# Altium footprint library HV9006_MEASUREBOARD.PCBLIB: 292 footprints (part 11 of 19)
Each footprint in its own frame and in the unit in brackets; x right, y up, seen from the top. Pads: shape width x height; smd on the part's side, far side on the other; paste and mask are expansions set on the pad; w line width, h text height; cw(c..) or ccw(c..) is an arc to the next point about the centre after c.
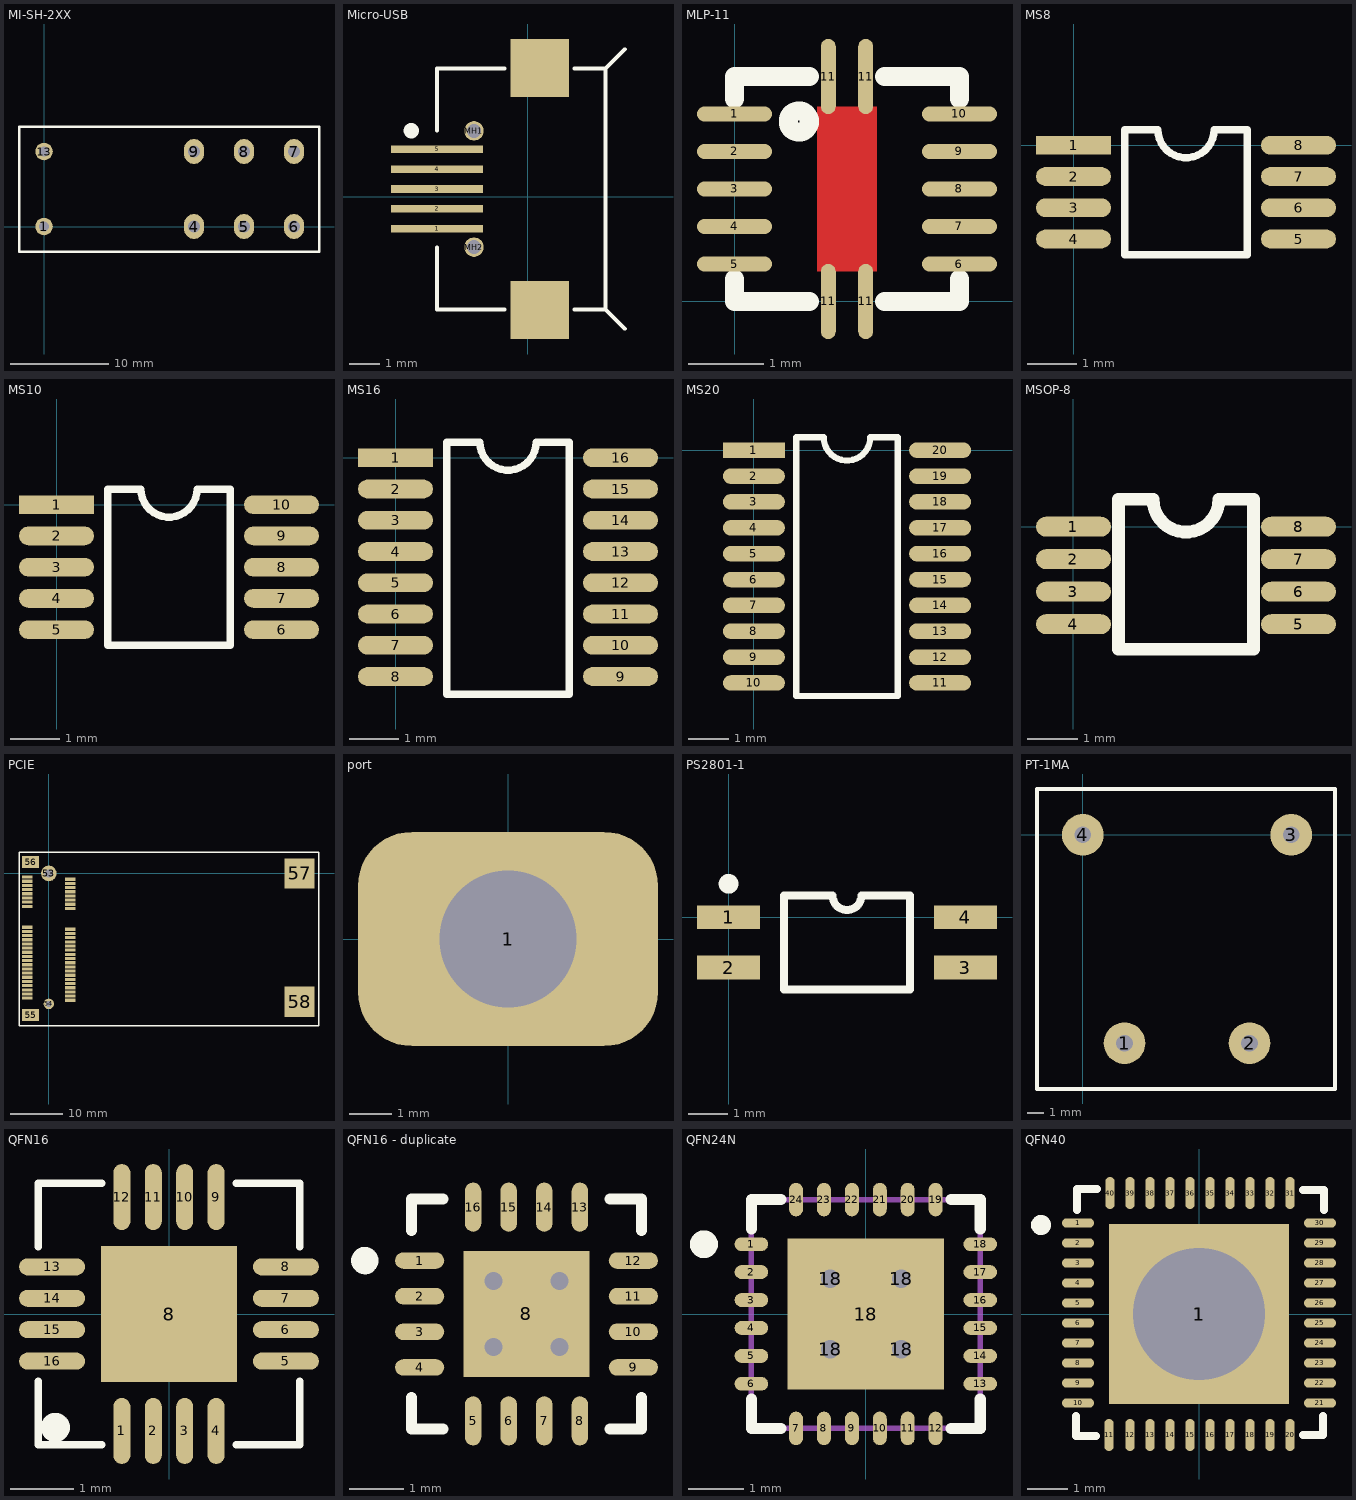
[diagram p10: the footprints below, top view; thin cyan lines are the x and y axes]

## MI-SH-2XX [mil]
pads (8):
  round 70 hole 39: 1(0,0) 13(0,300)
  oval 80x100 hole 47: 4(600,0) 5(800,0) 6(1000,0) 7(1000,300) 8(800,300) 9(600,300)
Top Overlay:
  lines w10: -100,-100 1100,-100 1100,400 -100,400 -100,-100

## Micro-USB [mm]
pads (9):
  rect 3x0.25 smd: 1(-2.968,-1.046) 2(-2.968,-0.396) 3(-2.968,0.254) 4(-2.968,0.904) 5(-2.968,1.554)
  round 0.635 hole 0.457 unplated: MH1(-1.76,2.154) MH2(-1.76,-1.646)
  rect 1.9x1.9 smd: ""(0.39,-3.696) ""(0.39,4.204)
Top Overlay:
  circle w0.25: c-3.808,2.159 r0.125
  lines w0.127: -2.968,-3.683 -0.762,-3.683 ; -2.968,-3.646 -2.968,-1.651 ; -2.968,2.159 -2.968,4.154 ; -2.968,4.191 -0.762,4.191 ; 1.524,-3.683 2.54,-3.683 3.17,-4.313 ; 1.524,4.191 2.54,4.191 3.17,4.821 ; 2.54,-3.646 2.54,4.154
3D body "micro USB.STEP": height 2.73, standoff -0.19, extent -2.826,-3.587 2.6,4.387

## MLP-11 [mm]
pads (14):
  oval 1x0.2 smd: 1(0,2.5) 2(0,2) 3(0,1.5) 4(0,1) 5(0,0.5) 6(3,0.5) 7(3,1) 8(3,1.5) 9(3,2) 10(3,2.5)
  oval 0.2x1 smd: 11(1.25,0) 11(1.25,3) 11(1.75,0) 11(1.75,3)
Top Layer:
  rectangle: 1.1,0.4 1.9,2.6
Top Overlay:
  circle w0.254: c0.859,2.4 r0.141
  lines w0.254: 0,0.3 0,0 1,0 ; 0,2.7 0,3 1,3 ; 2,0 3,0 3,0.3 ; 2,3 3,3 3,2.7

## MS8 [mil]
pads (8):
  rect 60x15 smd: 1(0,0)
  oval 60x15 smd: 2(0,-25) 3(0,-50) 4(0,-75) 5(180,-75) 6(180,-50) 7(180,-25) 8(180,0)
Top Overlay:
  lines w6: 67,12.5 41,12.5 41,-87.5 139,-87.5 139,12.5 113,12.5 ; 67.5,12.5 ccw(c90,12.5) 112.5,12.5

## MS10 [mil]
pads (10):
  rect 60x15 smd: 1(0,0)
  oval 60x15 smd: 2(0,-25) 3(0,-50) 4(0,-75) 5(0,-100) 6(180,-100) 7(180,-75) 8(180,-50) 9(180,-25) 10(180,0)
Top Overlay:
  lines w6: 67,12.5 41,12.5 41,-112.5 139,-112.5 139,12.5 113,12.5 ; 67.5,12.5 ccw(c90,12.5) 112.5,12.5

## MS16 [mil]
pads (16):
  rect 60x15 smd: 1(0,0)
  oval 60x15 smd: 2(0,-25) 3(0,-50) 4(0,-75) 5(0,-100) 6(0,-125) 7(0,-150) 8(0,-175) 9(180,-175) 10(180,-150) 11(180,-125) 12(180,-100) 13(180,-75) 14(180,-50) 15(180,-25) 16(180,0)
Top Overlay:
  lines w6: 67,12.5 41,12.5 41,-189 139,-189 139,12.5 113,12.5 ; 67.5,12.5 ccw(c90,12.5) 112.5,12.5

## MS20 [mil]
pads (20):
  rect 60x15 smd: 1(0,0)
  oval 60x15 smd: 2(0,-25) 3(0,-50) 4(0,-75) 5(0,-100) 6(0,-125) 7(0,-150) 8(0,-175) 9(0,-200) 10(0,-225) 11(180,-225) 12(180,-200) 13(180,-175) 14(180,-150) 15(180,-125) 16(180,-100) 17(180,-75) 18(180,-50) 19(180,-25) 20(180,0)
Top Overlay:
  lines w6: 67,12.5 41,12.5 41,-237.5 139,-237.5 139,12.5 113,12.5 ; 67.5,12.5 ccw(c90,12.5) 112.5,12.5

## MSOP-8 [mm]
pads (8):
  oval 1.5x0.4 smd: 1(0,0) 2(0,-0.65) 3(0,-1.3) 4(0,-1.95) 5(4.5,-1.95) 6(4.5,-1.3) 7(4.5,-0.65) 8(4.5,0)
Top Overlay:
  lines w0.254: 0.9,-2.45 3.6,-2.45 3.6,0.55 2.908,0.55 cw(c2.25,0.55) 1.592,0.55 0.9,0.55 0.9,-2.45

## PCIE [mm]
pads (58):
  rect 2x0.6 smd: 1(-4.1,-0.7) 2(4.1,-1.1) 3(-4.1,-1.5) 4(4.1,-1.9) 5(-4.1,-2.3) 6(4.1,-2.7) 7(-4.1,-3.1) 8(4.1,-3.5) 9(-4.1,-3.9) 10(4.1,-4.3) 11(-4.1,-4.7) 12(4.1,-5.1) 13(-4.1,-5.5) 14(4.1,-5.9) 15(-4.1,-6.3) 16(4.1,-6.7) 17(-4.1,-10.3) 18(4.1,-10.7) 19(-4.1,-11.1) 20(4.1,-11.5) 21(-4.1,-11.9) 22(4.1,-12.3) 23(-4.1,-12.7) 24(4.1,-13.1) 25(-4.1,-13.5) 26(4.1,-13.9) 27(-4.1,-14.3) 28(4.1,-14.7) 29(-4.1,-15.1) 30(4.1,-15.5) 31(-4.1,-15.9) 32(4.1,-16.3) 33(-4.1,-16.7) 34(4.1,-17.1) 35(-4.1,-17.5) 36(4.1,-17.9) 37(-4.1,-18.3) 38(4.1,-18.7) 39(-4.1,-19.1) 40(4.1,-19.5) 41(-4.1,-19.9) 42(4.1,-20.3) 43(-4.1,-20.7) 44(4.1,-21.1) 45(-4.1,-21.5) 46(4.1,-21.9) 47(-4.1,-22.3) 48(4.1,-22.7) 49(-4.1,-23.1) 50(4.1,-23.5) 51(-4.1,-23.9) 52(4.1,-24.3)
  round 3 hole 1.6: 53(0,0)
  round 2 hole 1.1: 54(0,-25)
  rect 3.2x2.3 smd: 55(-3.5,-27.15) 56(-3.5,2.15)
  rect 5.8x5.8 smd: 57(48.05,0) 58(48.05,-24.6)
Top Overlay:
  lines w0.254: -5.715,-29.21 -5.715,4.089 51.765,4.089 51.765,-29.21 -5.715,-29.21

## port [mm]
pads (1):
  rrect50% 7x5 hole 3.2: 1(0,0)

## PS2801-1 [mm]
pads (4):
  rect 1.6x0.6 smd: 1(0,0) 2(0,-1.27) 3(6,-1.27) 4(6,0)
Top Overlay:
  circle w0.25: c0,0.85 r0.125
  lines w0.2: 2.633,0.555 ccw(c3,0.555) 3.367,0.555 4.6,0.555 4.6,-1.825 1.4,-1.825 1.4,0.555 2.633,0.555

## PT-1MA [mil]
pads (4):
  round 100 hole 40: 1(100,-500) 2(400,-500) 3(500,0) 4(0,0)
Top Overlay:
  lines w10: -110,-610 605,-610 605,110 -110,110 -110,-610

## QFN16 [mm]
pads (17):
  oval 0.27x1.05 smd: 1(-0.75,-1.86) 2(-0.25,-1.86) 3(0.25,-1.86) 4(0.75,-1.86) 9(0.75,1.86) 10(0.25,1.86) 11(-0.25,1.86) 12(-0.75,1.86)
  oval 1.05x0.27 smd: 5(1.86,-0.75) 6(1.86,-0.25) 7(1.86,0.25) 8(1.86,0.75) 13(-1.86,0.75) 14(-1.86,0.25) 15(-1.86,-0.25) 16(-1.86,-0.75)
  rect 2.16x2.16 smd paste-2.16 mask+0: 8(0,0)
Top Overlay:
  circle w0.254: c-1.806,-1.803 r0.104
  lines w0.12: -2.08,-1.07 -2.08,-2.08 -1.07,-2.08 ; -2.08,1.07 -2.08,2.08 -1.07,2.08 ; 1.07,-2.08 2.08,-2.08 2.08,-1.07 ; 1.07,2.08 2.08,2.08 2.08,1.07
Top Paste:
  region: 0.865,-0.865 0.105,-0.865 0.105,-0.105 0.865,-0.105
  region: 0.865,0.105 0.105,0.105 0.105,0.865 0.865,0.865
  region: -0.105,-0.865 -0.865,-0.865 -0.865,-0.105 -0.105,-0.105
  region: -0.105,0.105 -0.865,0.105 -0.865,0.865 -0.105,0.865

## QFN16 - duplicate [mm]
pads (17):
  oval 0.9x0.3 smd: 1(-24.345,4.023) 2(-24.345,3.373) 3(-24.345,2.723) 4(-24.345,2.073) 9(-20.445,2.073) 10(-20.445,2.723) 11(-20.445,3.373) 12(-20.445,4.023)
  oval 0.3x0.9 smd: 5(-23.37,1.098) 6(-22.72,1.098) 7(-22.07,1.098) 8(-21.42,1.098) 13(-21.42,4.998) 14(-22.07,4.998) 15(-22.72,4.998) 16(-23.37,4.998)
  rect 2.3x2.3 smd: 8(-22.395,3.048)
via -21.795,2.448 diameter 0.66 hole 0.33
via -22.995,2.448 diameter 0.66 hole 0.33
via -21.795,3.648 diameter 0.66 hole 0.33
via -22.995,3.648 diameter 0.66 hole 0.33
Top Overlay:
  circle w0.25: c-25.345,4.023 r0.125
  lines w0.2: -24.495,1.523 -24.495,0.948 -23.92,0.948 ; -24.495,4.573 -24.495,5.148 -23.92,5.148 ; -20.87,0.948 -20.295,0.948 -20.295,1.523 ; -20.87,5.148 -20.295,5.148 -20.295,4.573

## QFN24N [mm] "QFN, 24-Leads, Body 4.1x4.1mm (max), Pitch 0.50mm, IPC Medium Density"
height 0.9
pads (29):
  oval 0.6x0.25 smd: 1(-2.05,1.25) 2(-2.05,0.75) 3(-2.05,0.25) 4(-2.05,-0.25) 5(-2.05,-0.75) 6(-2.05,-1.25) 13(2.05,-1.25) 14(2.05,-0.75) 15(2.05,-0.25) 16(2.05,0.25) 17(2.05,0.75) 18(2.05,1.25)
  oval 0.25x0.6 smd: 7(-1.25,-2.05) 8(-0.75,-2.05) 9(-0.25,-2.05) 10(0.25,-2.05) 11(0.75,-2.05) 12(1.25,-2.05) 19(1.25,2.05) 20(0.75,2.05) 21(0.25,2.05) 22(-0.25,2.05) 23(-0.75,2.05) 24(-1.25,2.05)
  round 0.66 hole 0.33: 18(-0.635,-0.635) 18(-0.635,0.635) 18(0.635,-0.635) 18(0.635,0.635)
  rect 2.8x2.7 smd: 18(0,0)
Top Overlay:
  circle w0.25: c-2.9,1.25 r0.125
  lines w0.2: -2.05,-1.525 -2.05,-2.05 -1.525,-2.05 ; -2.05,1.525 -2.05,2.05 -1.525,2.05 ; 1.525,-2.05 2.05,-2.05 2.05,-1.525 ; 1.525,2.05 2.05,2.05 2.05,1.525
Mechanical 13:
  lines w0.1: -2.05,-2.05 2.05,-2.05 2.05,2.05 -2.05,2.05 -2.05,-2.05
Mechanical 15:
  lines w0.1: -0.5,0 0.5,0 ; 0,-0.5 0,0.5
3D body: height 0.9, standoff 0.02, extent -2.05,-2.05 2.05,2.05

## QFN40 [mm]
pads (42):
  oval 0.8x0.23 smd: 1(-3.025,2.275) 2(-3.025,1.775) 3(-3.025,1.275) 4(-3.025,0.775) 5(-3.025,0.275) 6(-3.025,-0.225) 7(-3.025,-0.725) 8(-3.025,-1.225) 9(-3.025,-1.725) 10(-3.025,-2.225) 21(3.025,-2.225) 22(3.025,-1.725) 23(3.025,-1.225) 24(3.025,-0.725) 25(3.025,-0.225) 26(3.025,0.275) 27(3.025,0.775) 28(3.025,1.275) 29(3.025,1.775) 30(3.025,2.275)
  rect 4.5x4.5 smd: 1(0,0)
  round 3.5 hole 3.3: 1(0,0)
  oval 0.23x0.8 smd: 11(-2.25,-3.025) 12(-1.725,-3.025) 13(-1.225,-3.025) 14(-0.725,-3.025) 15(-0.225,-3.025) 16(0.275,-3.025) 17(0.775,-3.025) 18(1.275,-3.025) 19(1.775,-3.025) 20(2.275,-3.025) 31(2.275,3.025) 32(1.775,3.025) 33(1.275,3.025) 34(0.775,3.025) 35(0.275,3.025) 36(-0.225,3.025) 37(-0.725,3.025) 38(-1.225,3.025) 39(-1.725,3.025) 40(-2.225,3.025)
Top Overlay:
  circle w0.25: c-3.95,2.225 r0.125
  lines w0.2: -3.075,-2.55 -3.075,-3.05 -2.575,-3.05 ; -3.05,2.6 -3.05,3.125 -2.55,3.125 ; 2.6,-3.025 3.1,-3.025 3.1,-2.55 ; 2.6,3.1 3.125,3.1 3.125,2.6